# Altium footprint library Diodes Incorporated.PcbLib: 13 footprints
Each footprint in its own frame and in the unit in brackets; x right, y up, seen from the top. Pads: shape width x height; smd on the part's side, far side on the other; paste and mask are expansions set on the pad; w line width, h text height; cw(c..) or ccw(c..) is an arc to the next point about the centre after c.
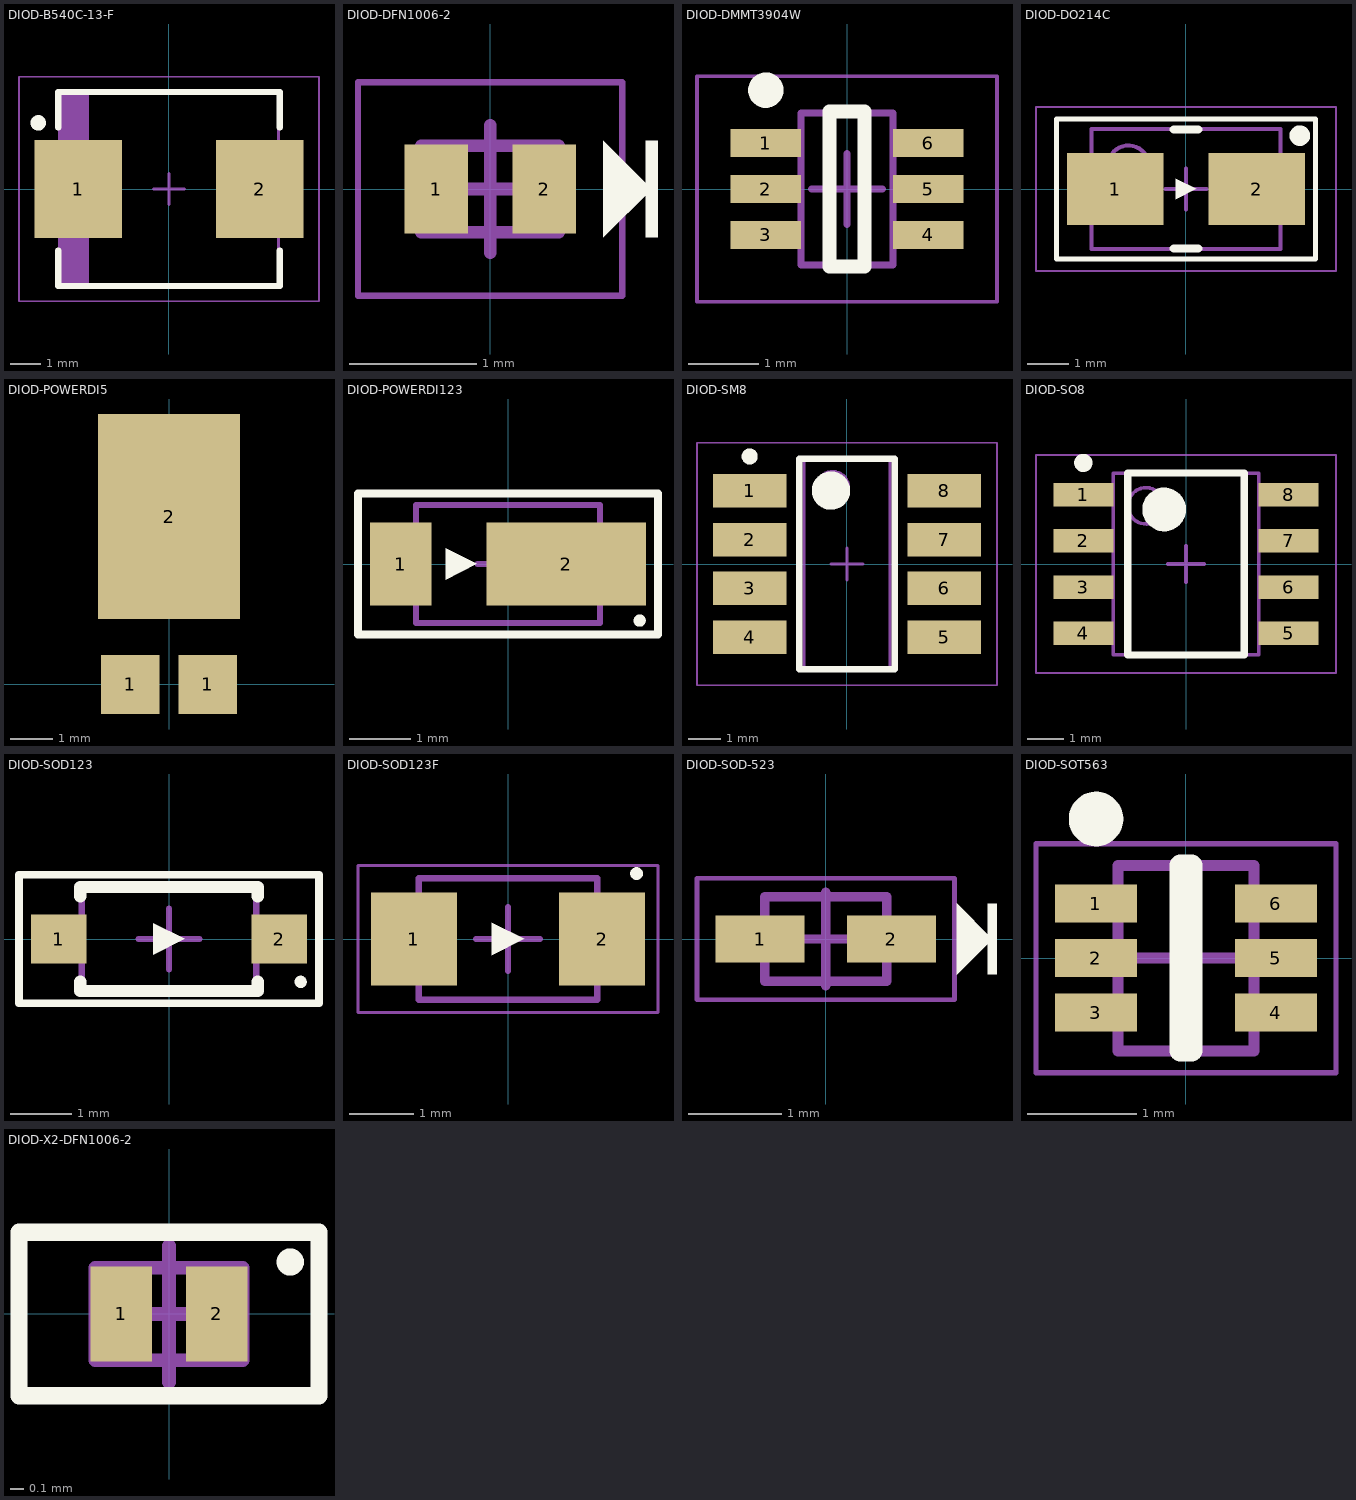
[diagram p0: the footprints below, top view; thin cyan lines are the x and y axes]

## DIOD-B540C-13-F [mm] "Molded Diode, 2-Leads, Body 6.86x5.91mm, IPC Low Density"
height 2.5
pads (2):
  rect 2.85x3.2 smd: 1(-2.95,0) 2(2.95,0)
Top Overlay:
  circle w0.25: c-4.25,2.15 r0.125
  lines w0.2: -3.6,-2 -3.6,-3.15 3.6,-3.15 3.6,-2 ; -3.6,2 -3.6,3.15 3.6,3.15 3.6,2
Assembly Top:
  rectangle: -3.555,-3.11 -2.599,3.11
  lines w0.1: -3.555,-3.11 3.555,-3.11 3.555,3.11 -3.555,3.11 -3.555,-3.11
Courtyard Top:
  lines w0.05: -4.875,-3.65 4.875,-3.65 4.875,3.65 -4.875,3.65 -4.875,-3.65
  lines w0.1: -0.5,0 0.5,0 ; 0,-0.5 0,0.5
3D body "DIOD-B540C-13-F.step": height 2.5, standoff 0, extent -3.775,-3.11 3.775,3.11

## DIOD-DFN1006-2 [mm] "DFN, 2-Leads, Body 0.61x1.01mm, Pitch 0.65mm, IPC Low Density"
height 0.53
pads (2):
  rect 0.5x0.7 smd: 1(-0.425,0) 2(0.425,0)
Top Overlay:
  rectangle: 1.221,-0.381 1.321,0.381
  region: 1.27,0 0.889,-0.381 0.889,0.381
Assembly Top:
  lines w0.1: -0.54,-0.34 -0.54,0.34 0.54,0.34 0.54,-0.34 -0.54,-0.34
Courtyard Top:
  lines w0.05: -1.04,-0.84 -1.04,0.84 1.04,0.84 1.04,-0.84 -1.04,-0.84
  lines w0.1: -0.5,0 0.5,0 ; 0,-0.5 0,0.5
3D body "DIOD-DFN1006-2.step": height 0.53, standoff 0, extent -0.537,-0.337 0.537,0.337

## DIOD-DMMT3904W [mm] "SOT23, 6-Leads, Body 1.98x2.05mm, Pitch 0.65mm, IPC Low Density"
height 1.05
pads (6):
  rect 1x0.4 smd: 1(-1.15,0.65) 2(-1.15,0) 3(-1.15,-0.65) 4(1.15,-0.65) 5(1.15,0) 6(1.15,0.65)
Top Overlay:
  circle w0.25: c-1.15,1.4 r0.125
  lines w0.2: -0.25,-1.1 -0.25,1.1 0.25,1.1 0.25,-1.1 -0.25,-1.1
Assembly Top:
  lines w0.1: -0.65,-1.075 0.65,-1.075 0.65,1.075 -0.65,1.075 -0.65,-1.075
Courtyard Top:
  lines w0.05: -2.125,-1.6 2.125,-1.6 2.125,1.6 -2.125,1.6 -2.125,-1.6
  lines w0.1: -0.5,0 0.5,0 ; 0,-0.5 0,0.5
3D body "DIOD-DMMT3904W.step": height 1.05, standoff 0, extent -1.05,-1.075 1.05,1.075

## DIOD-DO214C [mm] "SOJ, 2-Leads, Body 2.92x5.19mm, Pitch 1.27mm, IPC Low Density"
height 2.4
pads (2):
  rect 2.35x1.75 smd: 1(-1.725,0) 2(1.725,0)
Top Overlay:
  circle w0.25: c2.77,1.298 r0.125
  region: 0.254,0 -0.254,-0.254 -0.254,0.254
  lines w0.127: -3.15,-1.7 -3.15,1.7 3.15,1.7 3.15,-1.7 -3.15,-1.7
  lines w0.2: -0.3,-1.45 0.3,-1.45 ; -0.3,1.45 0.3,1.45
Mechanical 13:
  circle w0.1: c-1.4,0.56 r0.5
  lines w0.1: -2.3,-1.46 -2.3,1.46 2.3,1.46 2.3,-1.46 -2.3,-1.46
Mechanical 15:
  lines w0.05: -3.65,-2 -3.65,2 3.65,2 3.65,-2 -3.65,-2
  lines w0.1: -0.5,0 0.5,0 ; 0,-0.5 0,0.5
3D body "DIOD-DO214C.step": height 2.4, standoff 0, extent -2.798,-1.46 2.798,1.46

## DIOD-POWERDI5 [mm]
height 1.15
pads (3):
  rect 1.39x1.4 smd: 1(-0.92,0) 1(0.92,0)
  rect 3.36x4.86 smd: 2(0,3.982)

## DIOD-POWERDI123 [mm] "SODFL, 2-Leads, Body 1.78x3.70mm, IPC Low Density"
height 1
pads (2):
  rect 1x1.35 smd: 1(-1.75,0)
  rect 2.6x1.35 smd: 2(0.95,0)
Top Overlay:
  circle w0.1: c2.15,-0.924 r0.05
  region: -0.508,0 -1.016,-0.254 -1.016,0.254
  lines w0.127: -2.45,-1.15 2.45,-1.15 2.45,1.15 -2.45,1.15 -2.45,-1.15
Mechanical 13:
  lines w0.1: -1.5,-0.965 -1.5,0.965 1.5,0.965 1.5,-0.965 -1.5,-0.965
Mechanical 15:
  lines w0.05: -2.45,-1.15 -2.45,1.15 2.45,1.15 2.45,-1.15 -2.45,-1.15
  lines w0.1: -0.5,0 0.5,0 ; 0,-0.5 0,0.5
3D body "DIOD-POWERDI123.step": height 1, standoff 0, extent -1.85,-0.965 1.85,0.965

## DIOD-SM8 [mm] "SOP, 8-Leads, Body 6.45x2.45mm, Pitch 1.53mm, IPC Low Density"
height 1.7
pads (8):
  rect 2.3x1.05 smd: 1(-3.05,2.295) 2(-3.05,0.765) 3(-3.05,-0.765) 4(-3.05,-2.295) 5(3.05,-2.295) 6(3.05,-0.765) 7(3.05,0.765) 8(3.05,2.295)
Top Overlay:
  circle w0.25: c-3.05,3.37 r0.125
  circle w0.6: c-0.5,2.3 r0.3
  lines w0.2: -1.5,-3.3 -1.5,3.3 1.5,3.3 1.5,-3.3 -1.5,-3.3
Mechanical 13:
  circle w0.1: c-0.45,2.4 r0.5
  lines w0.1: -1.35,-3.3 -1.35,3.3 1.35,3.3 1.35,-3.3 -1.35,-3.3
Mechanical 15:
  lines w0.05: -4.7,-3.8 -4.7,3.8 4.7,3.8 4.7,-3.8 -4.7,-3.8
  lines w0.1: -0.5,0 0.5,0 ; 0,-0.5 0,0.5
3D body: height 1.7, standoff 0.02, extent -1.35,-3.3 1.35,3.3

## DIOD-SO8 [mm] "SOIC, 8-Leads, Body 4.90x3.90mm, Pitch 1.27mm, IPC Low Density"
height 1.7
pads (8):
  rect 1.65x0.65 smd: 1(-2.825,1.905) 2(-2.825,0.635) 3(-2.825,-0.635) 4(-2.825,-1.905) 5(2.825,-1.905) 6(2.825,-0.635) 7(2.825,0.635) 8(2.825,1.905)
Top Overlay:
  circle w0.25: c-2.825,2.78 r0.125
  circle w0.6: c-0.6,1.5 r0.3
  lines w0.2: -1.6,-2.5 -1.6,2.5 1.6,2.5 1.6,-2.5 -1.6,-2.5
Mechanical 13:
  circle w0.1: c-1.1,1.6 r0.5
  lines w0.1: -2,-2.5 -2,2.5 2,2.5 2,-2.5 -2,-2.5
Mechanical 15:
  lines w0.05: -4.125,-3 -4.125,3 4.125,3 4.125,-3 -4.125,-3
  lines w0.1: -0.5,0 0.5,0 ; 0,-0.5 0,0.5
3D body "DIOD-SO8.step": height 1.7, standoff 0, extent -3,-2.5 3,2.5

## DIOD-SOD123 [mm] "SODFL, 2-Leads, Body 1.55x3.70mm, IPC Low Density"
height 1.45
pads (2):
  rect 0.9x0.8 smd: 1(-1.8,0) 2(1.8,0)
Top Overlay:
  circle w0.1: c2.15,-0.7 r0.05
  region: 0.254,0 -0.254,-0.254 -0.254,0.254
  lines w0.127: -2.45,-1.05 -2.45,1.05 2.45,1.05 2.45,-1.05 -2.45,-1.05
  lines w0.2: -1.45,-0.7 -1.45,-0.85 1.45,-0.85 1.45,-0.7 ; -1.45,0.7 -1.45,0.85 1.45,0.85 1.45,0.7
Mechanical 13:
  lines w0.1: -1.425,-0.85 1.425,-0.85 1.425,0.85 -1.425,0.85 -1.425,-0.85
Mechanical 15:
  lines w0.05: -2.45,-1.05 2.45,-1.05 2.45,1.05 -2.45,1.05 -2.45,-1.05
  lines w0.1: -0.5,0 0.5,0 ; 0,-0.5 0,0.5
3D body "TSOP65P370X145-2M.step": height 1.45, standoff 0, extent -1.849,-0.85 1.849,0.85

## DIOD-SOD123F [mm] "SODFL, 2-Leads, Body 1.80x3.50mm, IPC Low Density"
height 1.15
pads (2):
  rect 1.35x1.45 smd: 1(-1.475,0) 2(1.475,0)
Top Overlay:
  circle w0.1: c2.014,1.025 r0.05
  region: 0.254,0 -0.254,-0.254 -0.254,0.254
Mechanical 13:
  lines w0.1: -1.4,-0.95 1.4,-0.95 1.4,0.95 -1.4,0.95 -1.4,-0.95
Mechanical 15:
  lines w0.05: -2.35,-1.15 2.35,-1.15 2.35,1.15 -2.35,1.15 -2.35,-1.15
  lines w0.1: -0.5,0 0.5,0 ; 0,-0.5 0,0.5
3D body "DIOD-SOD123F.step": height 1.15, standoff 0, extent -1.75,-0.95 1.75,0.95

## DIOD-SOD-523 [mm] "SODFL, 2-Leads, Body 0.80x1.60mm, IPC Low Density"
height 0.7
pads (2):
  rect 0.95x0.5 smd: 1(-0.7,0) 2(0.7,0)
Top Overlay:
  rectangle: 1.729,-0.381 1.829,0.381
  region: 1.778,0 1.397,-0.381 1.397,0.381
Assembly Top:
  lines w0.1: -0.65,-0.45 0.65,-0.45 0.65,0.45 -0.65,0.45 -0.65,-0.45
Courtyard Top:
  lines w0.05: -1.375,-0.65 1.375,-0.65 1.375,0.65 -1.375,0.65 -1.375,-0.65
  lines w0.1: -0.5,0 0.5,0 ; 0,-0.5 0,0.5
3D body "DIOD-SOD-523.step": height 0.7, standoff 0, extent -0.8,-0.45 0.8,0.45

## DIOD-SOT563 [mm] "SOTFL, 6-Leads, Body 1.60x1.63mm, Pitch 0.50mm, IPC Low Density"
height 0.6
pads (6):
  rect 0.75x0.347 smd: 1(-0.825,0.5) 2(-0.825,0) 3(-0.825,-0.5) 4(0.825,-0.5) 5(0.825,0) 6(0.825,0.5)
Top Overlay:
  circle w0.25: c-0.825,1.275 r0.125
  lines w0.2: -0.05,-0.85 -0.05,0.85 0.05,0.85 0.05,-0.85 -0.05,-0.85
Assembly Top:
  lines w0.1: -0.625,-0.85 0.625,-0.85 0.625,0.85 -0.625,0.85 -0.625,-0.85
Courtyard Top:
  lines w0.05: -1.375,-1.05 1.375,-1.05 1.375,1.05 -1.375,1.05 -1.375,-1.05
  lines w0.1: -0.5,0 0.5,0 ; 0,-0.5 0,0.5
3D body "DIOD-SOT563.step": height 0.6, standoff 0, extent -0.813,-0.848 0.813,0.848

## DIOD-X2-DFN1006-2 [mm] "DFN, 2-Leads, Body 0.61x1.01mm, Pitch 0.70mm, IPC Low Density"
height 0.4
pads (2):
  rect 0.45x0.7 smd: 1(-0.35,0) 2(0.35,0)
Top Overlay:
  circle w0.1: c0.889,0.381 r0.05
  lines w0.127: -1.1,-0.6 1.1,-0.6 1.1,0.6 -1.1,0.6 -1.1,-0.6
Mechanical 13:
  lines w0.1: -0.54,-0.34 -0.54,0.34 0.54,0.34 0.54,-0.34 -0.54,-0.34
Mechanical 15:
  lines w0.05: -1.1,-0.6 -1.1,0.6 1.1,0.6 1.1,-0.6 -1.1,-0.6
  lines w0.1: -0.5,0 0.5,0 ; 0,-0.5 0,0.5
3D body "DIOD-X2-DFN1006-2.step": height 0.4, standoff 0, extent -0.537,-0.337 0.537,0.337